# Altium schematic symbol library WCAP-ATG8.SchLib: 11 symbols
Pins are listed as number, name and electrical type; pins without a type are passive.

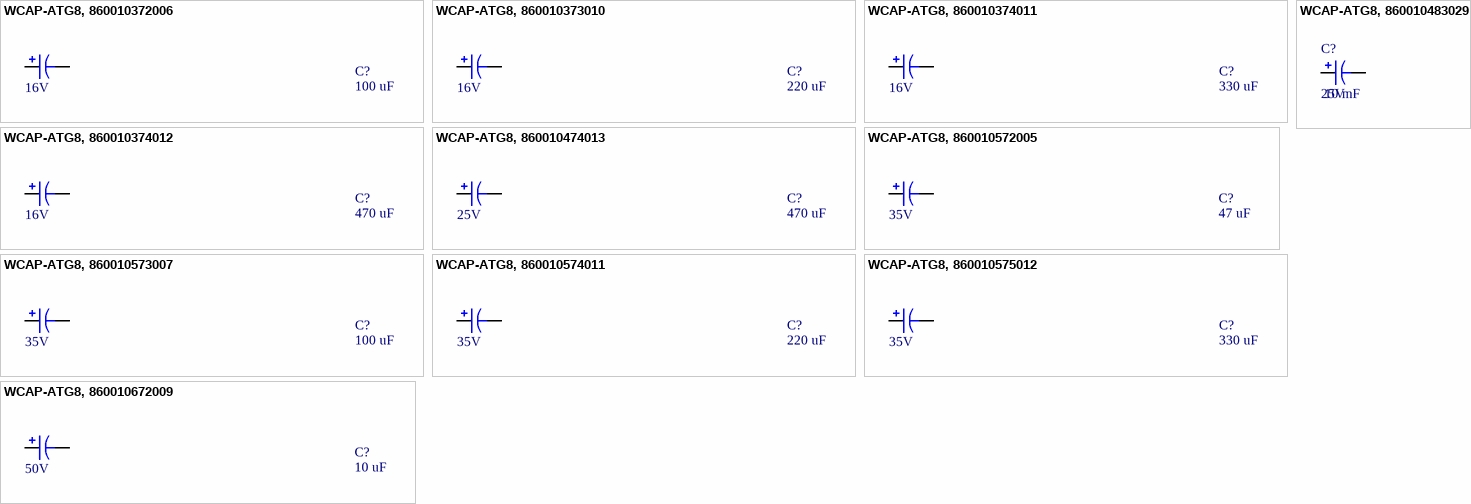
[diagram p0: symbols WCAP-ATG8, 860010372006 to WCAP-ATG8, 860010672009]

## WCAP-ATG8, 860010372006
designator C?, comment 100 uF  RatedVoltage: 16V
CAP Alu 100 UF 20% 16 V; Manufacturer: Wurth Elektronik; Manufacturer Part Number: 860010372006; ComponentLink1Description: Datasheet; ComponentLink1URL: http://katalog.we-online.de/pbs/datasheet/860010372006.pdf; Value: 100 uF; Size: 5mmx11mm
footprint WCAP-ATG8_5x11x2x0.5
pins: 1, 2

## WCAP-ATG8, 860010373010
designator C?, comment 220 uF  RatedVoltage: 16V
CAP Alu 220 UF 20% 16 V; Manufacturer: Wurth Elektronik; Manufacturer Part Number: 860010373010; ComponentLink1Description: Datasheet; ComponentLink1URL: http://katalog.we-online.de/pbs/datasheet/860010373010.pdf; Value: 220 uF; Size: 6.3mmx11mm
footprint WCAP-ATG8_6.3x11x2.5x0.5
pins: 1, 2

## WCAP-ATG8, 860010374011
designator C?, comment 330 uF  RatedVoltage: 16V
CAP Alu 330 UF 20% 16 V; Manufacturer: Wurth Elektronik; Manufacturer Part Number: 860010374011; ComponentLink1Description: Datasheet; ComponentLink1URL: http://katalog.we-online.de/pbs/datasheet/860010374011.pdf; Value: 330 uF; Size: 8mmx11.5mm
footprint WCAP-ATG8_8x11.5x3.5x0.5
pins: 1, 2

## WCAP-ATG8, 860010374012
designator C?, comment 470 uF  RatedVoltage: 16V
CAP Alu 470 UF 20% 16 V; Manufacturer: Wurth Elektronik; Manufacturer Part Number: 860010374012; ComponentLink1Description: Datasheet; ComponentLink1URL: http://katalog.we-online.de/pbs/datasheet/860010374012.pdf; Value: 470 uF; Size: 8mmx11.5mm
footprint WCAP-ATG8_8x11.5x3.5x0.5
pins: 1, 2

## WCAP-ATG8, 860010474013
designator C?, comment 470 uF  RatedVoltage: 25V
CAP Alu 470 UF 20% 25 V; Manufacturer: Wurth Elektronik; Manufacturer Part Number: 860010474013; ComponentLink1Description: Datasheet; ComponentLink1URL: http://katalog.we-online.de/pbs/datasheet/860010474013.pdf; Size: 8mmx11.5mm; Value: 470 uF
footprint WCAP-ATG8_8x11.5x3.5x0.5
pins: 1, 2

## WCAP-ATG8, 860010483029
designator C?, comment 10 mF  RatedVoltage: 25V
CAP Alu 10'000 UF 25 V; Manufacturer Part Number: 860010483029; Manufacturer: Wurth Elektronik; ComponentLink1Description: Datasheet; ComponentLink1URL: http://katalog.we-online.de/pbs/datasheet/860010483029.pdf; Size: 22x41mm; Value: 10 mF
footprint WCAP-ATG8_22x41x10x0.8 (Polarized capacitors, Aluminum Electrolytic Capacitors, 2-Leads, Body 22x41x10x0.8)
pins: 1, 2

## WCAP-ATG8, 860010572005
designator C?, comment 47 uF  RatedVoltage: 35V
CAP Alu 47 UF 20% 35 V; Manufacturer: Wurth Elektronik; Manufacturer Part Number: 860010572005; ComponentLink1Description: Datasheet; ComponentLink1URL: http://katalog.we-online.de/pbs/datasheet/860010572005.pdf; Value: 47 uF; Size: 5mmx11mm
footprint WCAP-ATG8_5x11x2x0.5
pins: 1, 2

## WCAP-ATG8, 860010573007
designator C?, comment 100 uF  RatedVoltage: 35V
CAP Alu 100 UF 20% 35 V; Manufacturer: Wurth Elektronik; Manufacturer Part Number: 860010573007; ComponentLink1Description: Datasheet; ComponentLink1URL: http://katalog.we-online.de/pbs/datasheet/860010573007.pdf; Value: 100 uF; Size: 6.3mmx11mm
footprint WCAP-ATG8_6.3x11x2.5x0.5
pins: 1, 2

## WCAP-ATG8, 860010574011
designator C?, comment 220 uF  RatedVoltage: 35V
CAP Alu 220 UF 20% 35 V; Manufacturer: Wurth Elektronik; Manufacturer Part Number: 860010574011; ComponentLink1Description: Datasheet; ComponentLink1URL: http://katalog.we-online.de/pbs/datasheet/860010574011.pdf; Value: 220 uF; Size: 8mmx11.5mm
footprint WCAP-ATG8_8x11.5x3.5x0.5
pins: 1, 2

## WCAP-ATG8, 860010575012
designator C?, comment 330 uF  RatedVoltage: 35V
CAP Alu 330 UF 20% 35 V; Manufacturer: Wurth Elektronik; Manufacturer Part Number: 860010575012; ComponentLink1Description: Datasheet; ComponentLink1URL: http://katalog.we-online.de/pbs/datasheet/860010575012.pdf; Value: 330 uF; Size: 10mmx12.5mm
footprint WCAP-ATG8_10x12.5x5x0.6
pins: 1, 2

## WCAP-ATG8, 860010672009
designator C?, comment 10 uF  RatedVoltage: 50V
CAP Alu 10 UF 20% 50 V; Manufacturer: Wurth Elektronik; Manufacturer Part Number: 860010672009; ComponentLink1Description: Datasheet; ComponentLink1URL: http://katalog.we-online.de/pbs/datasheet/860010672009.pdf; Value: 10 uF; Size: 5mmx11mm
footprint WCAP-ATG8_5x11x2x0.5
pins: 1, 2